# Altium footprint library LYDZ.PcbLib: 231 footprints (part 12 of 15)
Each footprint in its own frame and in the unit in brackets; x right, y up, seen from the top. Pads: shape width x height; smd on the part's side, far side on the other; paste and mask are expansions set on the pad; w line width, h text height; cw(c..) or ccw(c..) is an arc to the next point about the centre after c.
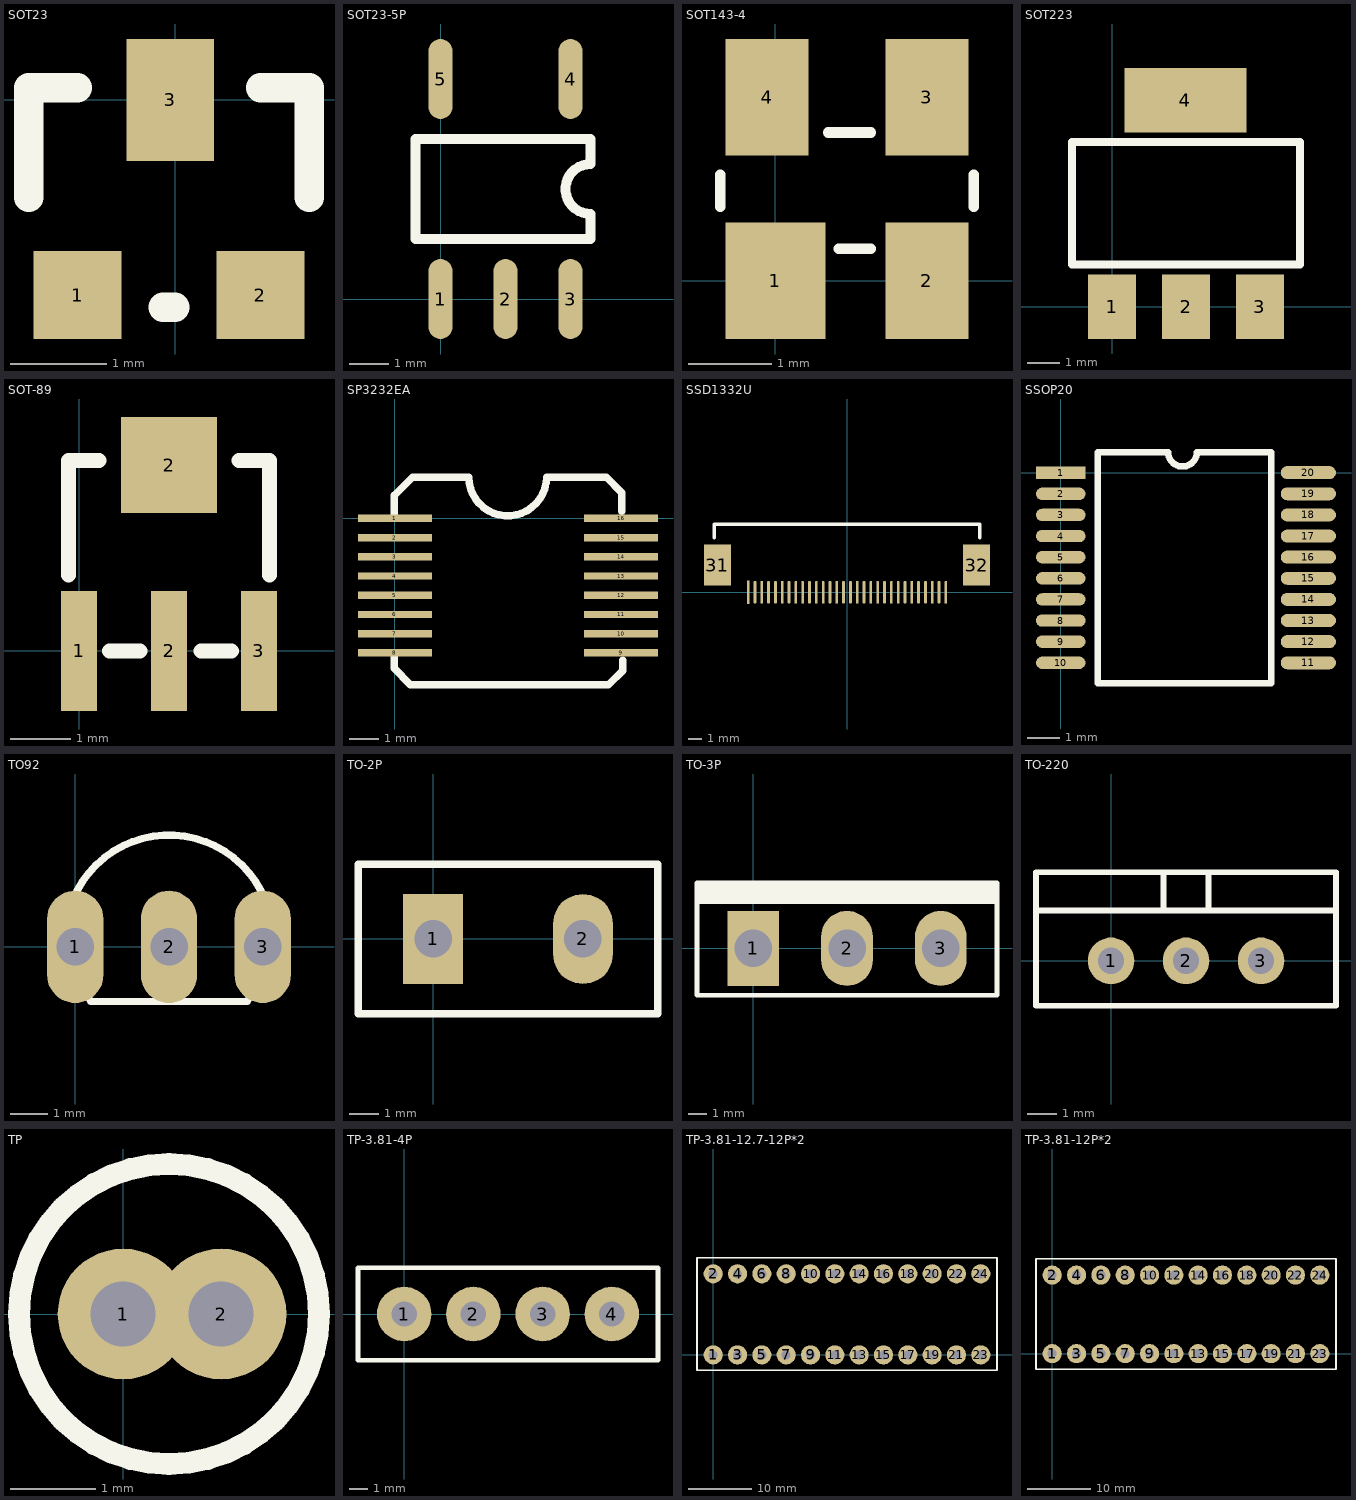
[diagram p11: the footprints below, top view; thin cyan lines are the x and y axes]

## SOT23 [mil]
pads (3):
  rect 36x36 smd: 1(-40,-80) 2(35,-80)
  rect 36x50 smd: 3(-2,0)
Top Overlay:
  lines w12: -60,-40 -60,5 -40,5 ; -5,-85 0,-85 ; 35,5 55,5 55,-40

## SOT23-5P [mil]
pads (5):
  oval 24x80 smd: 1(0,0) 2(65,0) 3(130,0) 4(130,220) 5(0,220)
Top Overlay:
  lines w10: -25,60 -25,160 150,160 150,135 ccw(c150,110) 150,85 150,60 -25,60

## SOT143-4 [mm]
pads (4):
  rect 1.2x1.4 smd: 1(0,0)
  rect 1x1.4 smd: 2(1.82,0) 3(1.82,2.2) 4(-0.1,2.2)
Top Overlay:
  lines w0.127: -0.66,0.889 -0.66,1.27 ; 0.635,1.778 1.143,1.778 ; 0.762,0.381 1.143,0.381 ; 2.38,0.889 2.38,1.27

## SOT223 [mil]
pads (4):
  rect 59x79 smd: 1(0,0) 2(90.55,0) 3(181.1,0)
  rect 150x79 smd: 4(89.88,253.54)
Top Overlay:
  lines w10: -49.45,52 -49.45,202 230.55,202 230.55,52 -49.45,52

## SOT-89 [mm]
pads (4):
  rect 0.6x2 smd: 1(0,0) 2(1.5,0) 3(3,0)
  rect 1.6x1.6 smd: 2(1.5,3.1)
Top Overlay:
  lines w0.25: -0.178,1.27 -0.178,3.175 0.33,3.175 ; 0.508,0 1.016,0 ; 2.032,0 2.54,0 ; 2.667,3.175 3.175,3.175 3.175,1.27

## SP3232EA [mm]
pads (16):
  rect 2.5x0.25 smd: 1(0,0) 2(0,-0.65) 3(0,-1.3) 4(0,-1.95) 5(0,-2.6) 6(0,-3.25) 7(0,-3.9) 8(0,-4.55) 9(7.65,-4.55) 10(7.65,-3.9) 11(7.65,-3.25) 12(7.65,-2.6) 13(7.65,-1.95) 14(7.65,-1.3) 15(7.65,-0.65) 16(7.65,0)
Top Overlay:
  lines w0.254: -0.025,-4.7 -0.025,-5.075 0.525,-5.625 7.225,-5.625 7.7,-5.15 7.7,-4.8 ; -0.025,0.15 -0.025,0.775 0.6,1.4 2.5,1.4 ccw(c3.814,1.4) 5.128,1.4 7.15,1.4 7.675,0.875 7.675,0.25

## SSD1332U [mil]
pads (32):
  rect 8x66.93 smd: 1(-285.43,0)
  oval 8x66 smd: 2(-265.75,0) 3(-246.06,0) 4(-226.38,0) 5(-206.69,0) 6(-187.01,0) 7(-167.32,0) 8(-147.64,0) 9(-127.95,0) 10(-108.27,0) 11(-88.58,0) 12(-68.9,0) 13(-49.21,0) 14(-29.53,0) 15(-9.84,0) 16(9.84,0) 17(29.53,0) 18(49.21,0) 19(68.9,0) 20(88.58,0) 21(108.27,0) 22(127.95,0) 23(147.64,0) 24(167.32,0) 25(187.01,0) 26(206.69,0) 27(226.38,0) 28(246.06,0) 29(265.75,0) 30(285.43,0)
  rect 78.74x118.11 smd: 31(-374.02,78.74) 32(374.02,78.74)
Top Overlay:
  lines w10: -383.86,157.48 -383.86,196.85 383.86,196.85 383.86,157.48

## SSOP20 [mm]
pads (20):
  rect 1.524x0.381 smd: 1(0,0)
  oval 1.524x0.381 smd: 2(0,-0.65) 3(0,-1.3) 4(0,-1.95) 5(0,-2.6) 6(0,-3.25) 7(0,-3.9) 8(0,-4.55) 9(0,-5.2) 10(0,-5.85)
  oval 1.7x0.4 smd: 11(7.62,-5.85) 12(7.62,-5.2) 13(7.62,-4.55) 14(7.62,-3.9) 15(7.62,-3.25) 16(7.62,-2.6) 17(7.62,-1.95) 18(7.62,-1.3) 19(7.62,-0.65) 20(7.62,0)
Top Overlay:
  lines w0.2: 1.143,-6.477 6.477,-6.477 6.477,0.635 4.191,0.635 cw(c3.746,0.635) 3.302,0.635 1.143,0.635 1.143,-6.477

## TO92 [mil]
pads (3):
  oval 60x120 hole 40: 1(0,0) 2(100,0) 3(200,0)
Top Overlay:
  lines w7.87: -2.76,49.85 cw(c100,8.33) 202.76,49.85 ; 10.92,-49.71 16.67,-58.33 183.33,-58.33 189.08,-49.71

## TO-2P [mil]
pads (2):
  rect 80x120 hole 50: 1(0,0)
  oval 80x120 hole 50: 2(200,0)
Top Overlay:
  lines w10: -100,-100 300,-100 300,100 -100,100 -100,-100

## TO-3P [mil]
height 200
pads (3):
  rect 110x160 hole 80: 1(0,0)
  oval 110x160 hole 80: 2(200,0) 3(400,0)
Top Overlay:
  lines w10: -120,120 520,120 ; -120,130 520,130 ; -120,110 520,110 ; -120,110 520,110 ; -120,110 520,110 ; -120,110 -120,100 520,100 520,110 ; -120,-100 520,-100 520,140 -120,140 -120,-100

## TO-220 [mil]
pads (3):
  round 62 hole 35: 1(0,0) 2(100,0) 3(200,0)
Top Overlay:
  lines w7.87: -100,66.93 300,66.93 ; 70,66.93 70,118.11 ; 130,66.93 130,118.11 ; -100,-60 -100,118.11 300,118.11 300,-60 -100,-60

## TP [mil]
pads (2):
  round 60 hole 30: 1(0,0) 2(45,0)
Top Overlay:
  circle w10: c21.1,0 r68.9

## TP-3.81-4P [mm]
pads (4):
  round 3 hole 1.4: 1(0,0) 2(3.81,0) 3(7.62,0) 4(11.43,0)
Top Overlay:
  lines w0.254: -2.54,-2.54 -2.54,2.54 13.97,2.54 13.97,-2.54 -2.54,-2.54

## TP-3.81-12.7-12P*2 [mm]
pads (24):
  round 3 hole 1.4: 1(0,0) 2(0,12.7) 3(3.81,0) 4(3.81,12.7) 5(7.62,0) 6(7.62,12.7) 7(11.43,0) 8(11.43,12.7) 9(15.24,0) 10(15.24,12.7) 11(19.05,0) 12(19.05,12.7) 13(22.86,0) 14(22.86,12.7) 15(26.67,0) 16(26.67,12.7) 17(30.48,0) 18(30.48,12.7) 19(34.29,0) 20(34.29,12.7) 21(38.1,0) 22(38.1,12.7) 23(41.91,0) 24(41.91,12.7)
Top Overlay:
  lines w0.254: -2.54,-2.432 44.45,-2.432 44.45,15.24 -2.54,15.24 -2.54,-2.432

## TP-3.81-12P*2 [mm]
pads (24):
  round 3 hole 1.4: 1(0,0) 2(0,12.3) 3(3.81,0) 4(3.81,12.3) 5(7.62,0) 6(7.62,12.3) 7(11.43,0) 8(11.43,12.3) 9(15.24,0) 10(15.24,12.3) 11(19.05,0) 12(19.05,12.3) 13(22.86,0) 14(22.86,12.3) 15(26.67,0) 16(26.67,12.3) 17(30.48,0) 18(30.48,12.3) 19(34.29,0) 20(34.29,12.3) 21(38.1,0) 22(38.1,12.3) 23(41.91,0) 24(41.91,12.3)
Top Overlay:
  lines w0.254: -2.54,-2.432 -2.54,14.84 44.45,14.84 44.45,-2.432 -2.54,-2.432